# Altium schematic symbol library FINAL_PCB_SCHEMATICLIBRARY.SchLib: 3 symbols
Pins are listed as number, name and electrical type; pins without a type are passive.

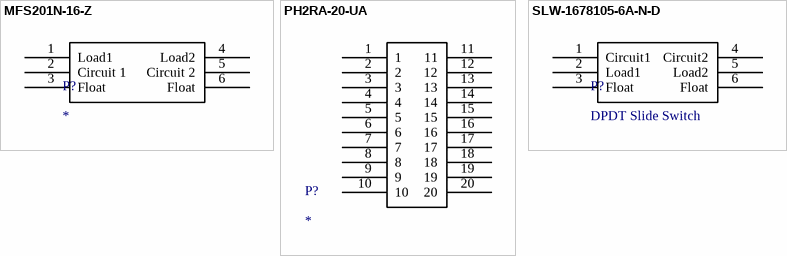
[diagram p0: symbols MFS201N-16-Z to SLW-1678105-6A-N-D]

## MFS201N-16-Z
designator P?
Slide Switch Right Angle
pins: 1 Load1, 2 Circuit 1, 3 Float, 4 Load2, 5 Circuit 2, 6 Float

## PH2RA-20-UA
designator P?
pins: 1, 2, 3, 4, 5, 6, 7, 8, 9, 10, 11, 12, 13, 14, 15, 16, 17, 18, 19, 20

## SLW-1678105-6A-N-D
designator P?, comment DPDT Slide Switch
DPDT Slide Switch (12V) (1A)
pins: 1 Circuit1, 2 Load1, 3 Float, 4 Circuit2, 5 Load2, 6 Float